# EAGLE library part CON-30P (library Connectors)
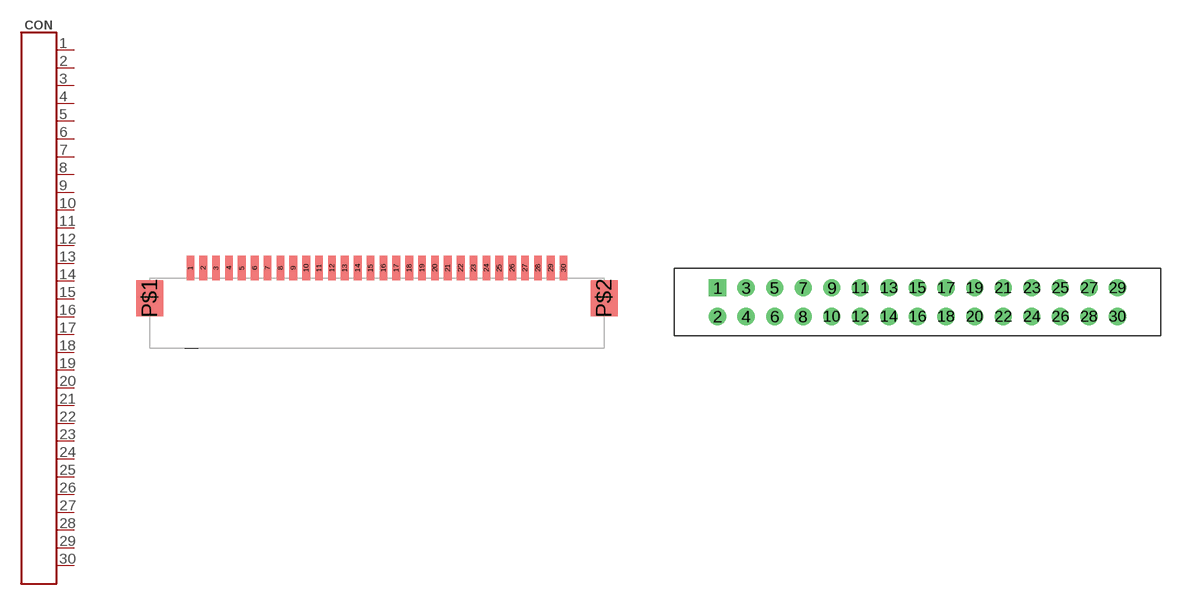
[diagram p10: symbol with the pads of 522073085; footprints 522073085, DS1018-30]

Designator prefix CON

## CON-30P-FFC/FPC (MANF: Molex; MANF#: 522073085)  [522073085]
1  1
2  2
3  3
4  4
5  5
6  6
7  7
8  8
9  9
10  10
11  11
12  12
13  13
14  14
15  15
16  16
17  17
18  18
19  19
20  20
21  21
22  22
23  23
24  24
25  25
26  26
27  27
28  28
29  29
30  30

## CON-30P-FDC (MANF: Connfly electronic; MANF#: DS1018-302BX)  [DS1018-30]
Pads as for 522073085

## CON-30P-IDC (MANF: Connfly electronic; MANF#: DS1013-30S)  [DS1013-30S]
Pads as for 522073085

## Footprint 522073085 (pad centres in mm)
Slide Lock 12 Contact,Top Surface Mount 1mm SMD,P=1mm FFC/FPC Connectors ROHS Drawing <https://datasheet.lcsc.com/lcsc/1811021622_MOLEX-522071233_C122397.pdf>
smd 0.6 x 1.9: 1 -14.5,0; 2 -13.5,0; 3 -12.5,0; 4 -11.5,0; 5 -10.5,0; 6 -9.5,0; 7 -8.5,0; 8 -7.5,0; 9 -6.5,0; 10 -5.5,0; 11 -4.5,0; 12 -3.5,0; 13 -2.5,0; 14 -1.5,0; 15 -0.5,0; 16 0.5,0; 17 1.5,0; 18 2.5,0; 19 3.5,0; 20 4.5,0; 21 5.5,0; 22 6.5,0; 23 7.5,0; 24 8.5,0; 25 9.5,0; 26 10.5,0; 27 11.5,0; 28 12.5,0; 29 13.5,0; 30 14.5,0
smd 2.1 x 2.8: P$1 -17.65,-2.35; P$2 17.65,-2.35

## Footprint DS1018-30 (pad centres in mm)
Drawing <https://static.chipdip.ru/lib/463/DOC002463525.pdf>
drill 1.02 square: 1 -17.78,1.27
drill 1.02: 2 -17.78,-1.27; 3 -15.24,1.27; 4 -15.24,-1.27; 5 -12.7,1.27; 6 -12.7,-1.27; 7 -10.16,1.27; 8 -10.16,-1.27; 9 -7.62,1.27; 10 -7.62,-1.27; 11 -5.08,1.27; 12 -5.08,-1.27; 13 -2.54,1.27; 14 -2.54,-1.27; 15 0,1.27; 16 0,-1.27; 17 2.54,1.27; 18 2.54,-1.27; 19 5.08,1.27; 20 5.08,-1.27; 21 7.62,1.27; 22 7.62,-1.27; 23 10.16,1.27; 24 10.16,-1.27; 25 12.7,1.27; 26 12.7,-1.27; 27 15.24,1.27; 28 15.24,-1.27; 29 17.78,1.27; 30 17.78,-1.27

## Footprint DS1013-30S (pad centres in mm)
Drawing <https://static.chipdip.ru/lib/463/DOC002463525.pdf>
drill 1.02 square: 1 -17.78,1.27
drill 1.02: 2 -17.78,-1.27; 3 -15.24,1.27; 4 -15.24,-1.27; 5 -12.7,1.27; 6 -12.7,-1.27; 7 -10.16,1.27; 8 -10.16,-1.27; 9 -7.62,1.27; 10 -7.62,-1.27; 11 -5.08,1.27; 12 -5.08,-1.27; 13 -2.54,1.27; 14 -2.54,-1.27; 15 0,1.27; 16 0,-1.27; 17 2.54,1.27; 18 2.54,-1.27; 19 5.08,1.27; 20 5.08,-1.27; 21 7.62,1.27; 22 7.62,-1.27; 23 10.16,1.27; 24 10.16,-1.27; 25 12.7,1.27; 26 12.7,-1.27; 27 15.24,1.27; 28 15.24,-1.27; 29 17.78,1.27; 30 17.78,-1.27